# Altium footprint library led_displays.PcbLib: 2 footprints
Each footprint in its own frame and in the unit in brackets; x right, y up, seen from the top. Pads: shape width x height; smd on the part's side, far side on the other; paste and mask are expansions set on the pad; w line width, h text height; cw(c..) or ccw(c..) is an arc to the next point about the centre after c.
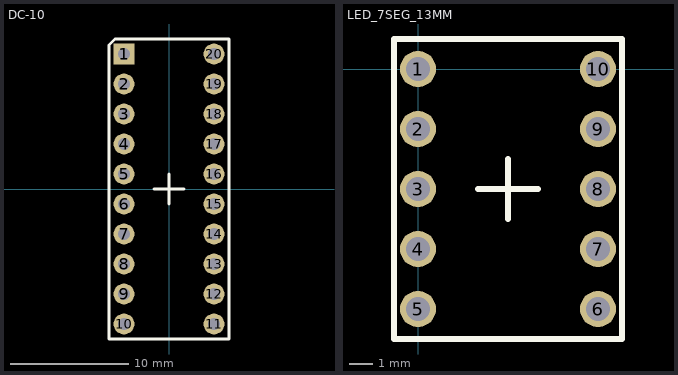
[diagram p0: the footprints below, top view; thin cyan lines are the x and y axes]

## DC-10 [mil] "10 Segment Bar Graph Arrays"
height 315
pads (20):
  rect 70x70 hole 39.37: 1(-150,450)
  round 70 hole 39.37: 2(-150,350) 3(-150,250) 4(-150,150) 5(-150,50) 6(-150,-50) 7(-150,-150) 8(-150,-250) 9(-150,-350) 10(-150,-450) 11(150,-450) 12(150,-350) 13(150,-250) 14(150,-150) 15(150,-50) 16(150,50) 17(150,150) 18(150,250) 19(150,350) 20(150,450)
Top Overlay:
  lines w10: -50,0 50,0 ; 0,-50 0,50 ; -200,-500 200,-500 200,500 -180,500 -200,480 -200,-500

## LED_7SEG_13MM [mil]
pads (10):
  round 60 hole 39.37: 1(0,0) 2(0,-100) 3(0,-200) 4(0,-300) 5(0,-400) 6(300,-400) 7(300,-300) 8(300,-200) 9(300,-100) 10(300,0)
Top Overlay:
  lines w10: 100,-200 200,-200 ; 150,-250 150,-150 ; -40,-450 -40,50 340,50 340,-450 -40,-450